# Altium footprint library shields.PcbLib: 1 footprints
Each footprint in its own frame and in the unit in brackets; x right, y up, seen from the top. Pads: shape width x height; smd on the part's side, far side on the other; paste and mask are expansions set on the pad; w line width, h text height; cw(c..) or ccw(c..) is an arc to the next point about the centre after c.
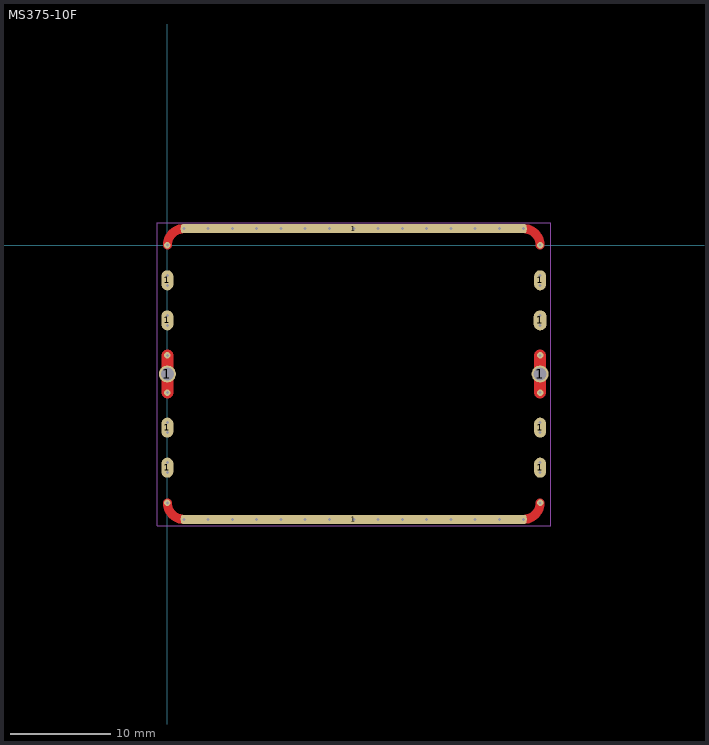
[diagram p0: the footprint, top view; thin cyan lines are the x and y axes]

## MS375-10F [mm] "Masach MS375-10F 37.5 x 29.3 x 6.5mm Two-piece Drawn-Seamless RF Shield/EMI Shield FRAME (CRS)"
pads (12):
  rrect100% 1.2x2 smd paste-2539.97: 1(0,-22.2) 1(0,-18.2) 1(0,-7.5) 1(0,-3.5) 1(37.2,-22.2) 1(37.2,-18.2) 1(37.2,-3.5)
  round 1.7 hole 1.3 paste-2539.97: 1(0,-12.85) 1(37.2,-12.85)
  rrect50% 34.5x0.9 smd paste-2539.97: 1(18.6,-27.35) 1(18.6,1.65)
  rrect100% 1.3x2 smd paste-2539.97: 1(37.2,-7.5)
via 1.65,-27.35 diameter 0.65 hole 0.3
via 25.864,-27.35 diameter 0.65 hole 0.3
via 23.443,-27.35 diameter 0.65 hole 0.3
via 21.021,-27.35 diameter 0.65 hole 0.3
via 33.129,-27.35 diameter 0.65 hole 0.3
via 30.707,-27.35 diameter 0.65 hole 0.3
via 28.286,-27.35 diameter 0.65 hole 0.3
via 16.179,-27.35 diameter 0.65 hole 0.3
via 6.493,-27.35 diameter 0.65 hole 0.3
via 4.071,-27.35 diameter 0.65 hole 0.3
via 8.914,-27.35 diameter 0.65 hole 0.3
via 13.757,-27.35 diameter 0.65 hole 0.3
via 11.336,-27.35 diameter 0.65 hole 0.3
via 35.55,-27.35 diameter 0.65 hole 0.3
via 18.6,-27.35 diameter 0.65 hole 0.3
via 1.65,1.65 diameter 0.65 hole 0.3
via 37.2,-7 diameter 0.65 hole 0.3
via 37.2,-8 diameter 0.65 hole 0.3
via 37.2,-4 diameter 0.65 hole 0.3
via 37.2,-3 diameter 0.65 hole 0.3
via 37.2,-21.7 diameter 0.65 hole 0.3
via 37.2,-22.7 diameter 0.65 hole 0.3
via 37.2,-18.7 diameter 0.65 hole 0.3
via 37.2,-17.7 diameter 0.65 hole 0.3
via 0,-21.7 diameter 0.65 hole 0.3
via 0,-22.7 diameter 0.65 hole 0.3
via 0,-18.7 diameter 0.65 hole 0.3
via 0,-17.7 diameter 0.65 hole 0.3
via 25.864,1.65 diameter 0.65 hole 0.3
via 23.443,1.65 diameter 0.65 hole 0.3
via 21.021,1.65 diameter 0.65 hole 0.3
via 33.129,1.65 diameter 0.65 hole 0.3
via 30.707,1.65 diameter 0.65 hole 0.3
via 28.286,1.65 diameter 0.65 hole 0.3
via 16.179,1.65 diameter 0.65 hole 0.3
via 6.493,1.65 diameter 0.65 hole 0.3
via 4.071,1.65 diameter 0.65 hole 0.3
via 8.914,1.65 diameter 0.65 hole 0.3
via 13.757,1.65 diameter 0.65 hole 0.3
via 11.336,1.65 diameter 0.65 hole 0.3
via 35.55,1.65 diameter 0.65 hole 0.3
via 0,-7 diameter 0.65 hole 0.3
via 0,-8 diameter 0.65 hole 0.3
via 0,-4 diameter 0.65 hole 0.3
via 0,-3 diameter 0.65 hole 0.3
via 0,0 diameter 0.65 hole 0.3
via 0,-11 diameter 0.65 hole 0.3
via 0,-14.7 diameter 0.65 hole 0.3
via 0,-25.7 diameter 0.65 hole 0.3
via 18.6,1.65 diameter 0.65 hole 0.3
via 37.2,-14.7 diameter 0.65 hole 0.3
via 37.2,-11 diameter 0.65 hole 0.3
via 37.2,-25.7 diameter 0.65 hole 0.3
via 37.2,0 diameter 0.65 hole 0.3
Top Layer:
  lines w0.9: 0,-25.7 ccw(c1.65,-25.7) 1.65,-27.35 ; 0,0 cw(c1.65,0) 1.65,1.65 ; 18.6,1.65 35.55,1.65 cw(c35.55,0) 37.2,0 ; 35.55,-27.35 ccw(c35.55,-25.7) 37.2,-25.7
  lines w1.2: 0,-14.7 0,-12.85 0,-11 ; 37.2,-14.7 37.2,-12.85 37.2,-11
Top Solder:
  lines w1.02: 0,-25.7 ccw(c1.65,-25.7) 1.65,-27.35 ; 0,0 cw(c1.65,0) 1.65,1.65 ; 35.55,-27.35 ccw(c35.55,-25.7) 37.2,-25.7 ; 35.55,1.65 cw(c35.55,0) 37.2,0
  lines w1.32: 0,-14.7 0,-12.85 0,-11 ; 37.2,-14.7 37.2,-12.85 37.2,-11
Mechanical 15:
  lines w0.05: -1,-28 -1,2.25 38.25,2.25 38.25,-28 -1,-28
3D body "ms375-10f.stp": height 6.5, standoff -0.6, extent -0.1,-27.5 37.4,1.8